# EAGLE library part 8X8_LED_MATRIX (library raspberrystem)
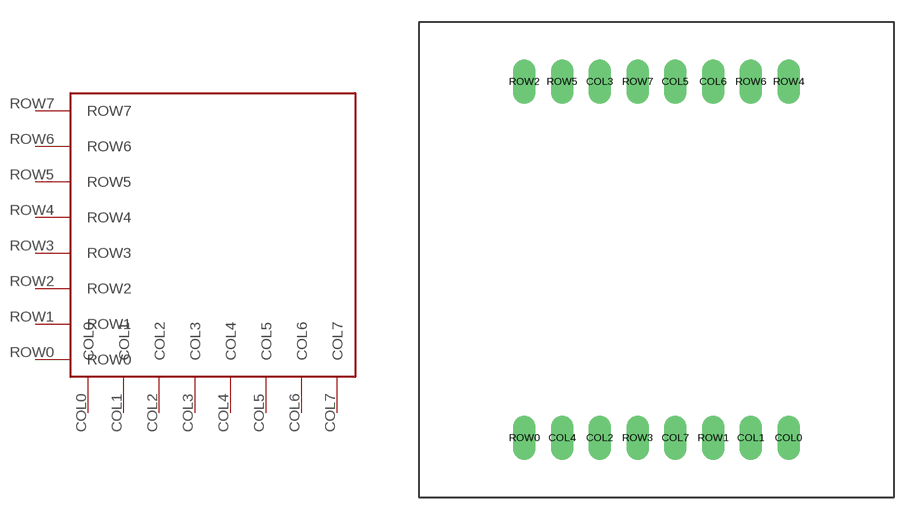
[diagram p0: symbol with the pads of 8X8_LED_MATRIX; footprint 8X8_LED_MATRIX]

Designator prefix -

## 8X8_LED_MATRIX  [8X8_LED_MATRIX]
COL0  COL0
COL1  COL1
COL2  COL2
COL3  COL3
COL4  COL4
COL5  COL5
COL6  COL6
COL7  COL7
ROW0  ROW0
ROW1  ROW1
ROW2  ROW2
ROW3  ROW3
ROW4  ROW4
ROW5  ROW5
ROW6  ROW6
ROW7  ROW7

## Footprint 8X8_LED_MATRIX (pad centres in mm)
drill 1 long: COL0 8.89,-12; COL1 6.35,-12; COL2 -3.81,-12; COL3 -3.81,12; COL4 -6.35,-12; COL5 1.27,12; COL6 3.81,12; COL7 1.27,-12; ROW0 -8.89,-12; ROW1 3.81,-12; ROW2 -8.89,12; ROW3 -1.27,-12; ROW4 8.89,12; ROW5 -6.35,12; ROW6 6.35,12; ROW7 -1.27,12